# EAGLE library part TLV272 (library 2018)
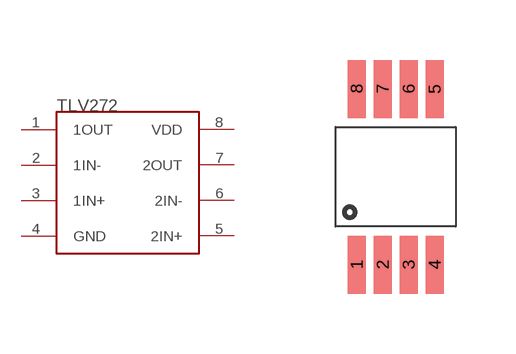
[diagram p1: symbol with the pads of 8-VSSOP; footprint 8-VSSOP]

Designator prefix -

## TLV272  [8-VSSOP]
1  1OUT
2  1IN-
3  1IN+
4  GND
5  2IN+
6  2IN-
7  2OUT
8  VDD

## Footprint 8-VSSOP (pad centres in mm)
smd 0.45 x 1.45: 1 -0.975,-2.2; 2 -0.325,-2.2; 3 0.325,-2.2; 4 0.975,-2.2; 5 0.975,2.2; 6 0.325,2.2; 7 -0.325,2.2; 8 -0.975,2.2